# EAGLE library part 74HC21 (library IC)
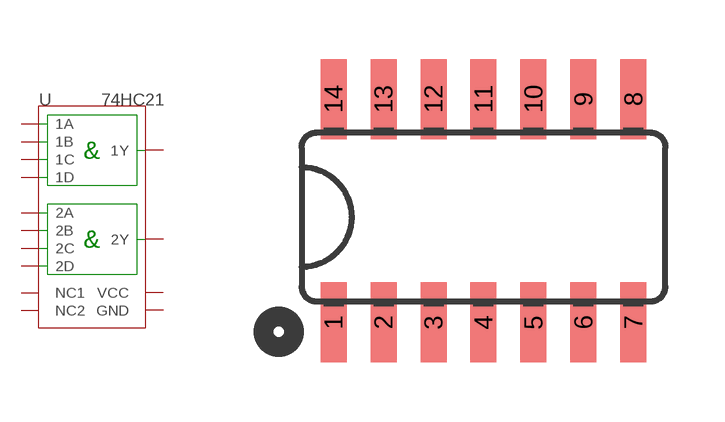
[diagram p2: symbol with the pads of SO014; footprint SO014]

Designator prefix U

## 74HC21-SO14  [SO014]
1  1A
2  1B
3  NC1
4  1C
5  1D
6  1Y
7  GND
8  2Y
9  2A
10  2B
11  NC2
12  2C
13  2D
14  VCC

## Footprint SO014 (pad centres in mm)
smd 0.66 x 2.032: 1 -3.175,-2.68; 2 -1.905,-2.68; 3 -0.635,-2.68; 4 0.635,-2.68; 5 1.905,-2.68; 6 3.175,-2.68; 7 4.445,-2.68; 8 4.445,2.997; 9 3.175,2.997; 10 1.905,2.997; 11 0.635,2.997; 12 -0.635,2.997; 13 -1.905,2.997; 14 -3.175,2.997